# EAGLE library part ADAV801* (library 0-adav801)
Audio Codec for Recordable DVD
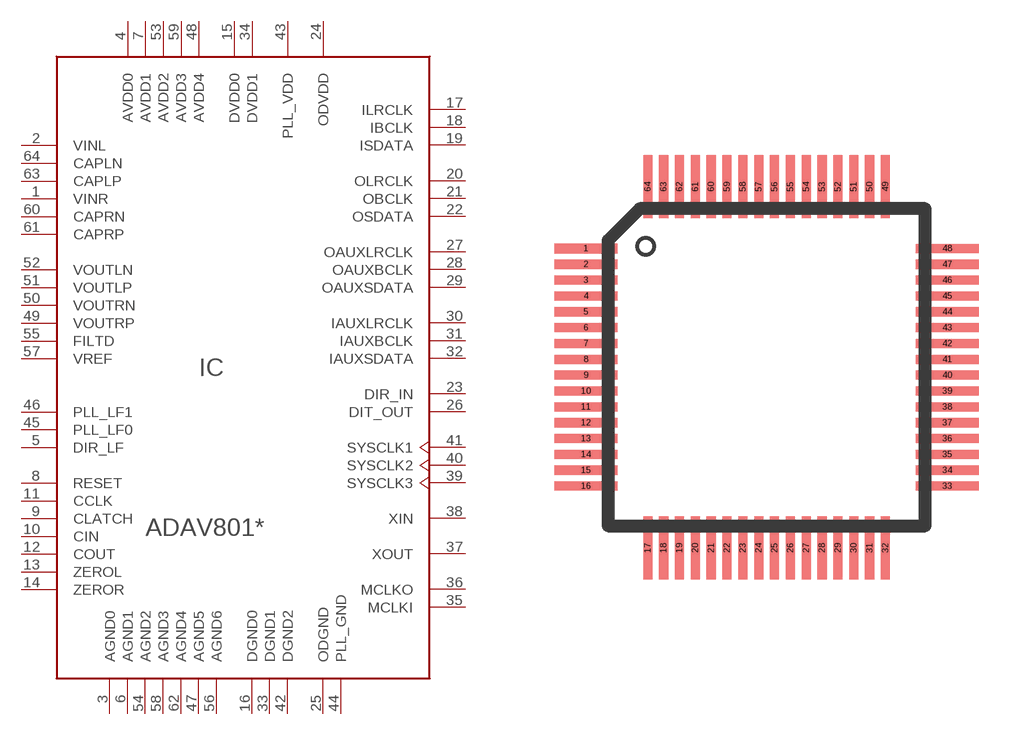
[diagram p0: symbol with the pads of LQFP64_MILL; footprint LQFP64_MILL]

Designator prefix IC

## ADAV801ASTZZ  [LQFP64_MILL]
1  VINR  pas
2  VINL  pas
3  AGND0  sup
4  AVDD0  sup
5  DIR_LF  pas
6  AGND1  sup
7  AVDD1  sup
8  RESET  in
9  CLATCH
10  CIN
11  CCLK
12  COUT
13  ZEROL  out
14  ZEROR  out
15  DVDD0  sup
16  DGND0  sup
17  ILRCLK  in
18  IBCLK  in
19  ISDATA  in
20  OLRCLK  out
21  OBCLK  out
22  OSDATA  out
23  DIR_IN  in
24  ODVDD  sup
25  ODGND  sup
26  DIT_OUT  out
27  OAUXLRCLK  out
28  OAUXBCLK  out
29  OAUXSDATA  out
30  IAUXLRCLK  in
31  IAUXBCLK  in
32  IAUXSDATA  in
33  DGND1  sup
34  DVDD1  sup
35  MCLKI
36  MCLKO
37  XOUT  pas
38  XIN  pas
39  SYSCLK3  in
40  SYSCLK2  in
41  SYSCLK1  in
42  DGND2  sup
43  PLL_VDD  sup
44  PLL_GND  sup
45  PLL_LF0  pas
46  PLL_LF1  pas
47  AGND5  sup
48  AVDD4  sup
49  VOUTRP  out
50  VOUTRN  out
51  VOUTLP  out
52  VOUTLN  out
53  AVDD2  sup
54  AGND2  sup
55  FILTD  pas
56  AGND6  sup
57  VREF
58  AGND3  sup
59  AVDD3  sup
60  CAPRN  pas
61  CAPRP  pas
62  AGND4  sup
63  CAPLP  pas
64  CAPLN  pas

## Footprint LQFP64_MILL (pad centres in mm)
Plastic Low Profile Quad Flat Package
smd 2 x 0.287: 1 -5.7,3.75; 2 -5.7,3.25; 3 -5.7,2.75; 4 -5.7,2.25; 5 -5.7,1.75; 6 -5.7,1.25; 7 -5.7,0.75; 8 -5.7,0.25; 9 -5.7,-0.25; 10 -5.7,-0.75; 11 -5.7,-1.25; 12 -5.7,-1.75; 13 -5.7,-2.25; 14 -5.7,-2.75; 15 -5.7,-3.25; 16 -5.7,-3.75; 33 5.7,-3.75; 34 5.7,-3.25; 35 5.7,-2.75; 36 5.7,-2.25; 37 5.7,-1.75; 38 5.7,-1.25; 39 5.7,-0.75; 40 5.7,-0.25; 41 5.7,0.25; 42 5.7,0.75; 43 5.7,1.25; 44 5.7,1.75; 45 5.7,2.25; 46 5.7,2.75; 47 5.7,3.25; 48 5.7,3.75
smd 0.287 x 2: 17 -3.75,-5.7; 18 -3.25,-5.7; 19 -2.75,-5.7; 20 -2.25,-5.7; 21 -1.75,-5.7; 22 -1.25,-5.7; 23 -0.75,-5.7; 24 -0.25,-5.7; 25 0.25,-5.7; 26 0.75,-5.7; 27 1.25,-5.7; 28 1.75,-5.7; 29 2.25,-5.7; 30 2.75,-5.7; 31 3.25,-5.7; 32 3.75,-5.7; 49 3.75,5.7; 50 3.25,5.7; 51 2.75,5.7; 52 2.25,5.7; 53 1.75,5.7; 54 1.25,5.7; 55 0.75,5.7; 56 0.25,5.7; 57 -0.25,5.7; 58 -0.75,5.7; 59 -1.25,5.7; 60 -1.75,5.7; 61 -2.25,5.7; 62 -2.75,5.7; 63 -3.25,5.7; 64 -3.75,5.7